# EAGLE library part IC-74HC4050D (library RelayBoard)
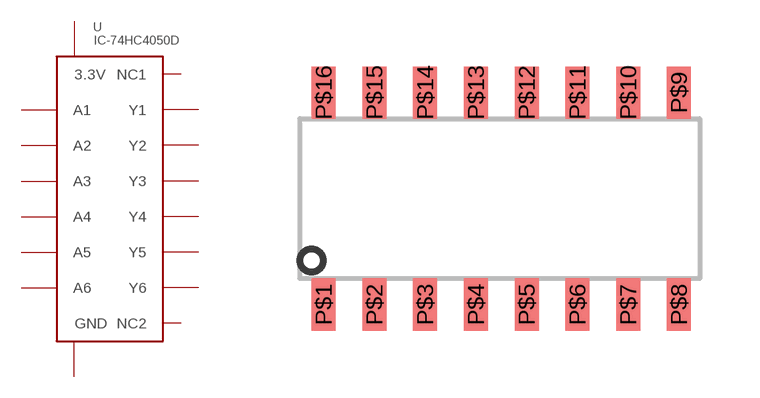
[diagram p6: symbol with the pads of SOIC-16-NXP-SOT109-1; footprint SOIC-16-NXP-SOT109-1]

Designator prefix -

## IC-74HC4050D  [SOIC-16-NXP-SOT109-1]
P$1  5V  pwr
P$2  Y1  out
P$3  A1  in
P$4  Y2  out
P$5  A2  in
P$6  Y3  out
P$7  A3  in
P$8  GND  pwr
P$9  A4  in
P$10  Y4  out
P$11  A5  in
P$12  Y5  out
P$13  NC1  nc
P$14  A6  in
P$15  Y6  out
P$16  NC2  nc

## Footprint SOIC-16-NXP-SOT109-1 (pad centres in mm)
http://www.nxp.com/documents/reflow_soldering/SO-SOJ-REFLOW.pdf
smd 0.6 x 1.3: P$1 0,-5.3; P$2 1.27,-5.3; P$3 2.54,-5.3; P$4 3.81,-5.3; P$5 5.08,-5.3; P$6 6.35,-5.3; P$7 7.62,-5.3; P$8 8.89,-5.3; P$9 8.89,0; P$10 7.62,0; P$11 6.35,0; P$12 5.08,0; P$13 3.81,0; P$14 2.54,0; P$15 1.27,0; P$16 0,0